# Altium schematic symbol library SN74LVC1G18DSFR.SchLib: 1 symbol
Pins are listed as number, name and electrical type; pins without a type are passive.

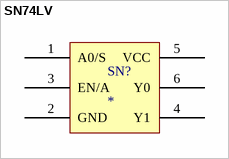
[diagram p0: symbol SN74LV]

## SN74LV
designator SN?
footprint SON35P100X40-6N (SON, 6-Leads, Body 1,00x1,00mm, Pitch 0,35mm, IPC Medium Density)
pins: 1 A0/S, 2 GND, 3 EN/A, 4 Y1, 5 VCC, 6 Y0